# EAGLE library part STM32F1_HIGH_DENSITY_LQFP64 (library STM32-PROX)
STM32F1_High_density_LQFP64 edit this description Auto generated by make-symbol-device-package-bsdl.ulp Rev. 43 Source: STM32F1_High_density_LQFP64.bsd
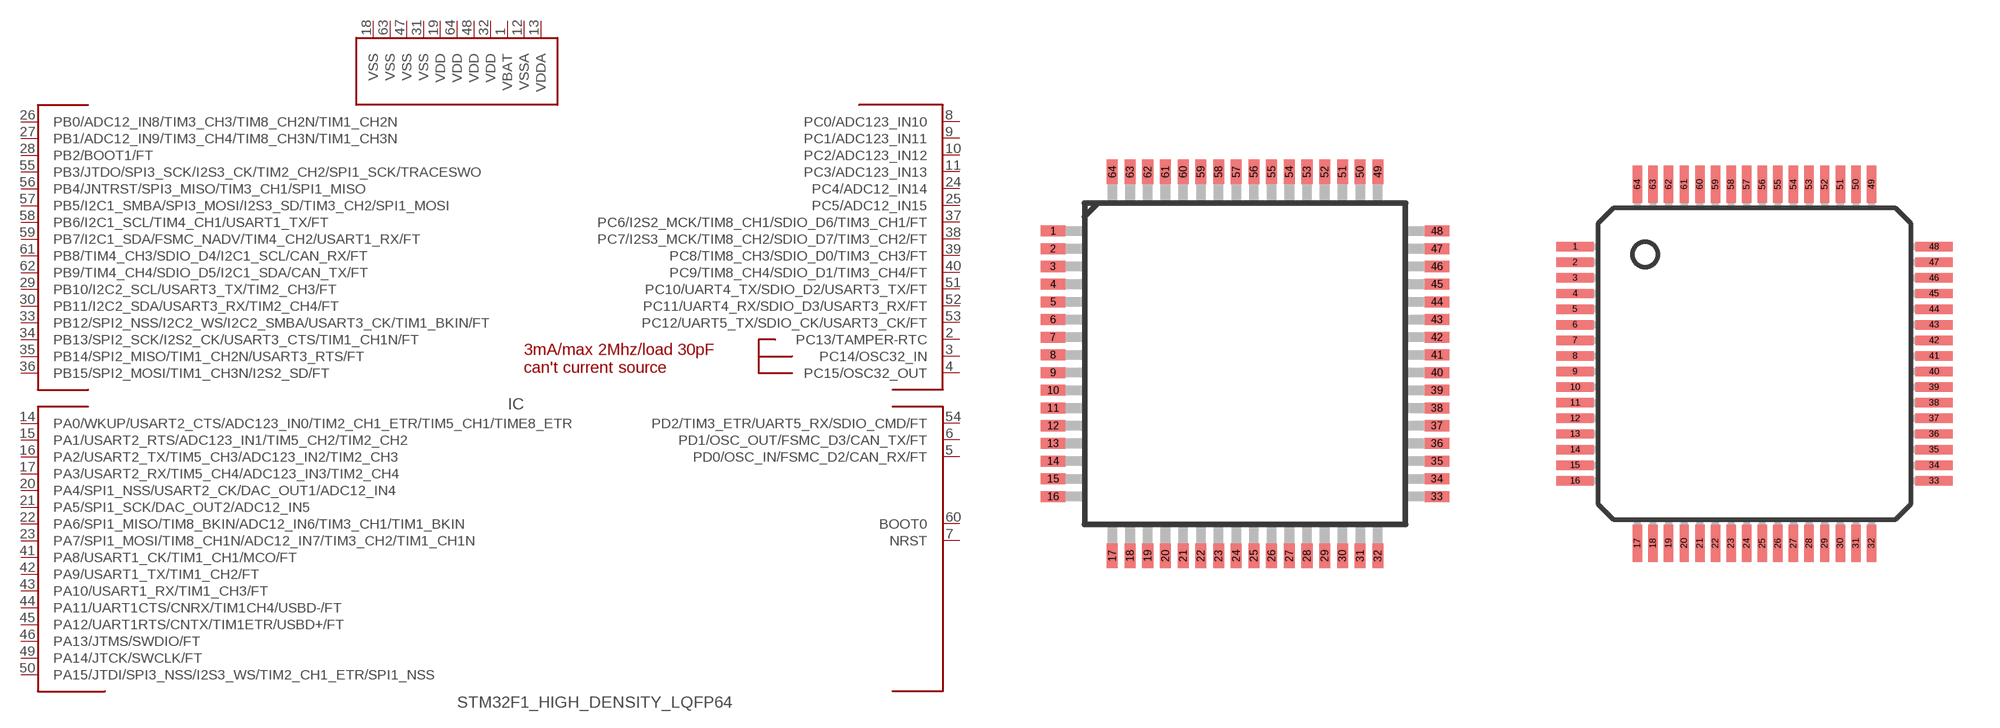
[diagram p12: symbol with the pads of LQFP64_PACKAGE; footprints LQFP64_PACKAGE, LQFP64A_PACKAGE]

Designator prefix IC

## STM32F1_HIGH_DENSITY_LQFP64LQF64  [LQFP64_PACKAGE]
1  VBAT  pas
2  PC13/TAMPER-RTC
3  PC14/OSC32_IN
4  PC15/OSC32_OUT
5  PD0/OSC_IN/FSMC_D2/CAN_RX/FT
6  PD1/OSC_OUT/FSMC_D3/CAN_TX/FT
7  NRST  in
8  PC0/ADC123_IN10
9  PC1/ADC123_IN11
10  PC2/ADC123_IN12
11  PC3/ADC123_IN13
12  VSSA  pwr
13  VDDA  pwr
14  PA0/WKUP/USART2_CTS/ADC123_IN0/TIM2_CH1_ETR/TIM5_CH1/TIME8_ETR
15  PA1/USART2_RTS/ADC123_IN1/TIM5_CH2/TIM2_CH2
16  PA2/USART2_TX/TIM5_CH3/ADC123_IN2/TIM2_CH3
17  PA3/USART2_RX/TIM5_CH4/ADC123_IN3/TIM2_CH4
18  VSS  pwr
19  VDD  pwr
20  PA4/SPI1_NSS/USART2_CK/DAC_OUT1/ADC12_IN4
21  PA5/SPI1_SCK/DAC_OUT2/ADC12_IN5
22  PA6/SPI1_MISO/TIM8_BKIN/ADC12_IN6/TIM3_CH1/TIM1_BKIN
23  PA7/SPI1_MOSI/TIM8_CH1N/ADC12_IN7/TIM3_CH2/TIM1_CH1N
24  PC4/ADC12_IN14
25  PC5/ADC12_IN15
26  PB0/ADC12_IN8/TIM3_CH3/TIM8_CH2N/TIM1_CH2N
27  PB1/ADC12_IN9/TIM3_CH4/TIM8_CH3N/TIM1_CH3N
28  PB2/BOOT1/FT
29  PB10/I2C2_SCL/USART3_TX/TIM2_CH3/FT
30  PB11/I2C2_SDA/USART3_RX/TIM2_CH4/FT
31  VSS  pwr
32  VDD  pwr
33  PB12/SPI2_NSS/I2C2_WS/I2C2_SMBA/USART3_CK/TIM1_BKIN/FT
34  PB13/SPI2_SCK/I2S2_CK/USART3_CTS/TIM1_CH1N/FT
35  PB14/SPI2_MISO/TIM1_CH2N/USART3_RTS/FT
36  PB15/SPI2_MOSI/TIM1_CH3N/I2S2_SD/FT
37  PC6/I2S2_MCK/TIM8_CH1/SDIO_D6/TIM3_CH1/FT
38  PC7/I2S3_MCK/TIM8_CH2/SDIO_D7/TIM3_CH2/FT
39  PC8/TIM8_CH3/SDIO_D0/TIM3_CH3/FT
40  PC9/TIM8_CH4/SDIO_D1/TIM3_CH4/FT
41  PA8/USART1_CK/TIM1_CH1/MCO/FT
42  PA9/USART1_TX/TIM1_CH2/FT
43  PA10/USART1_RX/TIM1_CH3/FT
44  PA11/UART1CTS/CNRX/TIM1CH4/USBD-/FT
45  PA12/UART1RTS/CNTX/TIM1ETR/USBD+/FT
46  PA13/JTMS/SWDIO/FT  in
47  VSS  pwr
48  VDD  pwr
49  PA14/JTCK/SWCLK/FT  in
50  PA15/JTDI/SPI3_NSS/I2S3_WS/TIM2_CH1_ETR/SPI1_NSS  in
51  PC10/UART4_TX/SDIO_D2/USART3_TX/FT
52  PC11/UART4_RX/SDIO_D3/USART3_RX/FT
53  PC12/UART5_TX/SDIO_CK/USART3_CK/FT
54  PD2/TIM3_ETR/UART5_RX/SDIO_CMD/FT
55  PB3/JTDO/SPI3_SCK/I2S3_CK/TIM2_CH2/SPI1_SCK/TRACESWO  out
56  PB4/JNTRST/SPI3_MISO/TIM3_CH1/SPI1_MISO  in
57  PB5/I2C1_SMBA/SPI3_MOSI/I2S3_SD/TIM3_CH2/SPI1_MOSI
58  PB6/I2C1_SCL/TIM4_CH1/USART1_TX/FT
59  PB7/I2C1_SDA/FSMC_NADV/TIM4_CH2/USART1_RX/FT
60  BOOT0  in
61  PB8/TIM4_CH3/SDIO_D4/I2C1_SCL/CAN_RX/FT
62  PB9/TIM4_CH4/SDIO_D5/I2C1_SDA/CAN_TX/FT
63  VSS  pwr
64  VDD  pwr

## STM32F1_HIGH_DENSITY_LQFP64LQFP64(10X10)  [LQFP64A_PACKAGE]
Pads as for LQFP64_PACKAGE

## Footprint LQFP64_PACKAGE (pad centres in mm)
LQFP64_PACKAGE Auto generated by make-symbol-device-package-bsdl.ulp Rev. 43
smd 0.9 x 0.4: 1 -7.05,4.875; 2 -7.05,4.225; 3 -7.05,3.575; 4 -7.05,2.925; 5 -7.05,2.275; 6 -7.05,1.625; 7 -7.05,0.975; 8 -7.05,0.325; 9 -7.05,-0.325; 10 -7.05,-0.975; 11 -7.05,-1.625; 12 -7.05,-2.275; 13 -7.05,-2.925; 14 -7.05,-3.575; 15 -7.05,-4.225; 16 -7.05,-4.875; 33 7.05,-4.875; 34 7.05,-4.225; 35 7.05,-3.575; 36 7.05,-2.925; 37 7.05,-2.275; 38 7.05,-1.625; 39 7.05,-0.975; 40 7.05,-0.325; 41 7.05,0.325; 42 7.05,0.975; 43 7.05,1.625; 44 7.05,2.275; 45 7.05,2.925; 46 7.05,3.575; 47 7.05,4.225; 48 7.05,4.875
smd 0.4 x 0.9: 17 -4.875,-7.05; 18 -4.225,-7.05; 19 -3.575,-7.05; 20 -2.925,-7.05; 21 -2.275,-7.05; 22 -1.625,-7.05; 23 -0.975,-7.05; 24 -0.325,-7.05; 25 0.325,-7.05; 26 0.975,-7.05; 27 1.625,-7.05; 28 2.275,-7.05; 29 2.925,-7.05; 30 3.575,-7.05; 31 4.225,-7.05; 32 4.875,-7.05; 49 4.875,7.05; 50 4.225,7.05; 51 3.575,7.05; 52 2.925,7.05; 53 2.275,7.05; 54 1.625,7.05; 55 0.975,7.05; 56 0.325,7.05; 57 -0.325,7.05; 58 -0.975,7.05; 59 -1.625,7.05; 60 -2.275,7.05; 61 -2.925,7.05; 62 -3.575,7.05; 63 -4.225,7.05; 64 -4.875,7.05

## Footprint LQFP64A_PACKAGE (pad centres in mm)
smd 1.2 x 0.3: 1 -5.75,3.75; 2 -5.75,3.25; 3 -5.75,2.75; 4 -5.75,2.25; 5 -5.75,1.75; 6 -5.75,1.25; 7 -5.75,0.75; 8 -5.75,0.25; 9 -5.75,-0.25; 10 -5.75,-0.75; 11 -5.75,-1.25; 12 -5.75,-1.75; 13 -5.75,-2.25; 14 -5.75,-2.75; 15 -5.75,-3.25; 16 -5.75,-3.75; 33 5.75,-3.75; 34 5.75,-3.25; 35 5.75,-2.75; 36 5.75,-2.25; 37 5.75,-1.75; 38 5.75,-1.25; 39 5.75,-0.75; 40 5.75,-0.25; 41 5.75,0.25; 42 5.75,0.75; 43 5.75,1.25; 44 5.75,1.75; 45 5.75,2.25; 46 5.75,2.75; 47 5.75,3.25; 48 5.75,3.75
smd 0.3 x 1.2: 17 -3.75,-5.75; 18 -3.25,-5.75; 19 -2.75,-5.75; 20 -2.25,-5.75; 21 -1.75,-5.75; 22 -1.25,-5.75; 23 -0.75,-5.75; 24 -0.25,-5.75; 25 0.25,-5.75; 26 0.75,-5.75; 27 1.25,-5.75; 28 1.75,-5.75; 29 2.25,-5.75; 30 2.75,-5.75; 31 3.25,-5.75; 32 3.75,-5.75; 49 3.75,5.75; 50 3.25,5.75; 51 2.75,5.75; 52 2.25,5.75; 53 1.75,5.75; 54 1.25,5.75; 55 0.75,5.75; 56 0.25,5.75; 57 -0.25,5.75; 58 -0.75,5.75; 59 -1.25,5.75; 60 -1.75,5.75; 61 -2.25,5.75; 62 -2.75,5.75; 63 -3.25,5.75; 64 -3.75,5.75